# Altium schematic symbol library BEE-DAL_EXP_sche.SCHLIB: 87 symbols
Pins are listed as number, name and electrical type; pins without a type are passive.

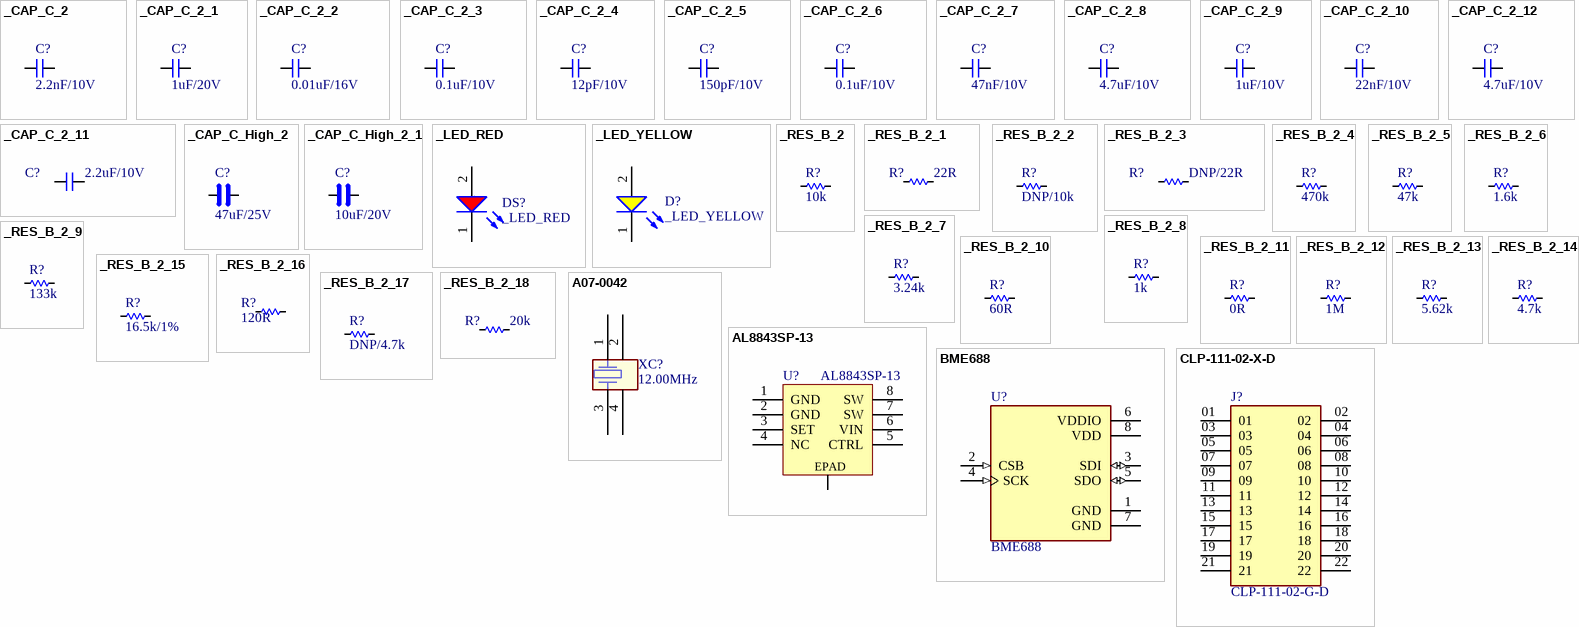
[diagram p0: symbols _CAP_C_2 to CLP-111-02-X-D]

## _CAP_C_2
designator C?, comment 2.2nF/10V
CAP
footprint CAP_C_1005X60
footprint CAP_C_1608X80 (Chip Capacitor, 2-Leads, Body 1.60x0.80mm, IPC Medium Density)
footprint CAP_C_2012X110 (Chip Capacitor, 2-Leads, Body 2.00x1.25mm, IPC High Density)
footprint CAP_C_3216X140 (Chip Capacitor, 2-Leads, Body 3.20x1.60mm, IPC High Density)
footprint CAP_C_3225X80 (Chip Capacitor, 2-Leads, Body 3.20x2.50mm, IPC Medium Density)
footprint CAP_C_1005X50_L (Chip Capacitor, 2-Leads, Body 1.0x0.5mm, IPC High Density)
pins: 1, 2

## _CAP_C_2_1
designator C?, comment 1uF/20V
CAP
footprint CAP_C_1005X60
footprint CAP_C_1608X80 (Chip Capacitor, 2-Leads, Body 1.60x0.80mm, IPC Medium Density)
footprint CAP_C_2012X110 (Chip Capacitor, 2-Leads, Body 2.00x1.25mm, IPC High Density)
footprint CAP_C_3216X140 (Chip Capacitor, 2-Leads, Body 3.20x1.60mm, IPC High Density)
footprint CAP_C_3225X80 (Chip Capacitor, 2-Leads, Body 3.20x2.50mm, IPC Medium Density)
footprint CAP_C_1005X50_L (Chip Capacitor, 2-Leads, Body 1.0x0.5mm, IPC High Density)
pins: 1, 2

## _CAP_C_2_2
designator C?, comment 0.01uF/16V
CAP
footprint CAP_C_1005X60
footprint CAP_C_1608X80 (Chip Capacitor, 2-Leads, Body 1.60x0.80mm, IPC Medium Density)
footprint CAP_C_2012X110 (Chip Capacitor, 2-Leads, Body 2.00x1.25mm, IPC High Density)
footprint CAP_C_3216X140 (Chip Capacitor, 2-Leads, Body 3.20x1.60mm, IPC High Density)
footprint CAP_C_3225X80 (Chip Capacitor, 2-Leads, Body 3.20x2.50mm, IPC Medium Density)
footprint CAP_C_1005X50_L (Chip Capacitor, 2-Leads, Body 1.0x0.5mm, IPC High Density)
pins: 1, 2

## _CAP_C_2_3
designator C?, comment 0.1uF/10V
CAP
footprint CAP_C_1005X60
footprint CAP_C_1608X80 (Chip Capacitor, 2-Leads, Body 1.60x0.80mm, IPC Medium Density)
footprint CAP_C_2012X110 (Chip Capacitor, 2-Leads, Body 2.00x1.25mm, IPC High Density)
footprint CAP_C_3216X140 (Chip Capacitor, 2-Leads, Body 3.20x1.60mm, IPC High Density)
footprint CAP_C_3225X80 (Chip Capacitor, 2-Leads, Body 3.20x2.50mm, IPC Medium Density)
footprint CAP_C_1005X50_L (Chip Capacitor, 2-Leads, Body 1.0x0.5mm, IPC High Density)
pins: 1, 2

## _CAP_C_2_4
designator C?, comment 12pF/10V
CAP
footprint CAP_C_1005X60
footprint CAP_C_1608X80 (Chip Capacitor, 2-Leads, Body 1.60x0.80mm, IPC Medium Density)
footprint CAP_C_2012X110 (Chip Capacitor, 2-Leads, Body 2.00x1.25mm, IPC High Density)
footprint CAP_C_3216X140 (Chip Capacitor, 2-Leads, Body 3.20x1.60mm, IPC High Density)
footprint CAP_C_3225X80 (Chip Capacitor, 2-Leads, Body 3.20x2.50mm, IPC Medium Density)
footprint CAP_C_1005X50_L (Chip Capacitor, 2-Leads, Body 1.0x0.5mm, IPC High Density)
pins: 1, 2

## _CAP_C_2_5
designator C?, comment 150pF/10V
CAP
footprint CAP_C_1005X60
footprint CAP_C_1608X80 (Chip Capacitor, 2-Leads, Body 1.60x0.80mm, IPC Medium Density)
footprint CAP_C_2012X110 (Chip Capacitor, 2-Leads, Body 2.00x1.25mm, IPC High Density)
footprint CAP_C_3216X140 (Chip Capacitor, 2-Leads, Body 3.20x1.60mm, IPC High Density)
footprint CAP_C_3225X80 (Chip Capacitor, 2-Leads, Body 3.20x2.50mm, IPC Medium Density)
footprint CAP_C_1005X50_L (Chip Capacitor, 2-Leads, Body 1.0x0.5mm, IPC High Density)
footprint CAP_C_0603x30 (Chip Capacitor, 2-Leads, Body 0.6x0.3mm, IPC Medium Density)
pins: 1, 2

## _CAP_C_2_6
designator C?, comment 0.1uF/10V
CAP CHIP
footprint CAP_C_1005X60
footprint CAP_C_1608X80 (Chip Capacitor, 2-Leads, Body 1.60x0.80mm, IPC Medium Density)
footprint CAP_C_2012X110 (Chip Capacitor, 2-Leads, Body 2.00x1.25mm, IPC High Density)
footprint CAP_C_3216X140 (Chip Capacitor, 2-Leads, Body 3.20x1.60mm, IPC High Density)
footprint CAP_C_3225X80 (Chip Capacitor, 2-Leads, Body 3.20x2.50mm, IPC Medium Density)
footprint CAP_C_1005X50_L (Chip Capacitor, 2-Leads, Body 1.0x0.5mm, IPC High Density)
pins: 1, 2

## _CAP_C_2_7
designator C?, comment 47nF/10V
CAP
footprint CAP_C_1005X60
footprint CAP_C_1608X80 (Chip Capacitor, 2-Leads, Body 1.60x0.80mm, IPC Medium Density)
footprint CAP_C_2012X110 (Chip Capacitor, 2-Leads, Body 2.00x1.25mm, IPC High Density)
footprint CAP_C_3216X140 (Chip Capacitor, 2-Leads, Body 3.20x1.60mm, IPC High Density)
footprint CAP_C_3225X80 (Chip Capacitor, 2-Leads, Body 3.20x2.50mm, IPC Medium Density)
footprint CAP_C_1005X50_L (Chip Capacitor, 2-Leads, Body 1.0x0.5mm, IPC High Density)
pins: 1, 2

## _CAP_C_2_8
designator C?, comment 4.7uF/10V
CAP
footprint CAP_C_1005X60
footprint CAP_C_1608X80 (Chip Capacitor, 2-Leads, Body 1.60x0.80mm, IPC Medium Density)
footprint CAP_C_2012X110 (Chip Capacitor, 2-Leads, Body 2.00x1.25mm, IPC High Density)
footprint CAP_C_3216X140 (Chip Capacitor, 2-Leads, Body 3.20x1.60mm, IPC High Density)
footprint CAP_C_3225X80 (Chip Capacitor, 2-Leads, Body 3.20x2.50mm, IPC Medium Density)
footprint CAP_C_1005X50_L (Chip Capacitor, 2-Leads, Body 1.0x0.5mm, IPC High Density)
pins: 1, 2

## _CAP_C_2_9
designator C?, comment 1uF/10V
CAP CHIP
footprint CAP_C_1005X60
footprint CAP_C_1608X80 (Chip Capacitor, 2-Leads, Body 1.60x0.80mm, IPC Medium Density)
footprint CAP_C_2012X110 (Chip Capacitor, 2-Leads, Body 2.00x1.25mm, IPC High Density)
footprint CAP_C_3216X140 (Chip Capacitor, 2-Leads, Body 3.20x1.60mm, IPC High Density)
footprint CAP_C_3225X80 (Chip Capacitor, 2-Leads, Body 3.20x2.50mm, IPC Medium Density)
footprint CAP_C_1005X50_L (Chip Capacitor, 2-Leads, Body 1.0x0.5mm, IPC High Density)
pins: 1, 2

## _CAP_C_2_10
designator C?, comment 22nF/10V
CAP CHIP
footprint CAP_C_1005X60
footprint CAP_C_1608X80 (Chip Capacitor, 2-Leads, Body 1.60x0.80mm, IPC Medium Density)
footprint CAP_C_2012X110 (Chip Capacitor, 2-Leads, Body 2.00x1.25mm, IPC High Density)
footprint CAP_C_3216X140 (Chip Capacitor, 2-Leads, Body 3.20x1.60mm, IPC High Density)
footprint CAP_C_3225X80 (Chip Capacitor, 2-Leads, Body 3.20x2.50mm, IPC Medium Density)
footprint CAP_C_1005X50_L (Chip Capacitor, 2-Leads, Body 1.0x0.5mm, IPC High Density)
pins: 1, 2

## _CAP_C_2_11
designator C?, comment 2.2uF/10V
CAP CHIP
footprint CAP_C_1005X60
footprint CAP_C_1608X80 (Chip Capacitor, 2-Leads, Body 1.60x0.80mm, IPC Medium Density)
footprint CAP_C_2012X110 (Chip Capacitor, 2-Leads, Body 2.00x1.25mm, IPC High Density)
footprint CAP_C_3216X140 (Chip Capacitor, 2-Leads, Body 3.20x1.60mm, IPC High Density)
footprint CAP_C_3225X80 (Chip Capacitor, 2-Leads, Body 3.20x2.50mm, IPC Medium Density)
footprint CAP_C_1005X50_L (Chip Capacitor, 2-Leads, Body 1.0x0.5mm, IPC High Density)
pins: 1, 2

## _CAP_C_2_12
designator C?, comment 4.7uF/10V
CAP CHIP
footprint CAP_C_1005X60
footprint CAP_C_1608X80 (Chip Capacitor, 2-Leads, Body 1.60x0.80mm, IPC Medium Density)
footprint CAP_C_2012X110 (Chip Capacitor, 2-Leads, Body 2.00x1.25mm, IPC High Density)
footprint CAP_C_3216X140 (Chip Capacitor, 2-Leads, Body 3.20x1.60mm, IPC High Density)
footprint CAP_C_3225X80 (Chip Capacitor, 2-Leads, Body 3.20x2.50mm, IPC Medium Density)
footprint CAP_C_1005X50_L (Chip Capacitor, 2-Leads, Body 1.0x0.5mm, IPC High Density)
pins: 1, 2

## _CAP_C_High_2
designator C?, comment 47uF/25V
CAP High Value
footprint CAP_C_1005X60
footprint CAP_C_1608X80 (Chip Capacitor, 2-Leads, Body 1.60x0.80mm, IPC Medium Density)
footprint CAP_C_2012X110 (Chip Capacitor, 2-Leads, Body 2.00x1.25mm, IPC High Density)
footprint CAP_C_3216X140 (Chip Capacitor, 2-Leads, Body 3.20x1.60mm, IPC High Density)
footprint CAP_C_3225X80 (Chip Capacitor, 2-Leads, Body 3.20x2.50mm, IPC Medium Density)
pins: 1, 2

## _CAP_C_High_2_1
designator C?, comment 10uF/20V
CAP High Value
footprint CAP_C_1005X60
footprint CAP_C_1608X80 (Chip Capacitor, 2-Leads, Body 1.60x0.80mm, IPC Medium Density)
footprint CAP_C_2012X110 (Chip Capacitor, 2-Leads, Body 2.00x1.25mm, IPC High Density)
footprint CAP_C_3216X140 (Chip Capacitor, 2-Leads, Body 3.20x1.60mm, IPC High Density)
footprint CAP_C_3225X80 (Chip Capacitor, 2-Leads, Body 3.20x2.50mm, IPC Medium Density)
pins: 1, 2

## _LED_RED
designator DS?
footprint LED_0603
footprint led_0402
footprint LED_0402
pins: 1 K, 2 A

## _LED_YELLOW
designator D?
footprint LED_0603
footprint LED_0402
pins: 1 K, 2 A

## _RES_B_2
designator R?, comment 10k
RES
footprint RES_C_1005X40
footprint RES_C_1608X60 (Chip Resistor, 2-Leads, Body 1.63x0.83mm, IPC High Density)
footprint RES_C_2012X65 (Chip Resistor, 2-Leads, Body 2.00x1.25mm, IPC High Density)
footprint RES_C_3216X70 (Chip Resistor, 2-Leads, Body 3.20x1.60mm, IPC Medium Density)
footprint RES_C_1005x30_L (Chip Resistor, 2-Leads, Body 1.0x0.5mm, IPC Medium Density)
pins: 1, 2

## _RES_B_2_1
designator R?, comment 22R
RES
footprint RES_C_1005X40
footprint RES_C_1608X60 (Chip Resistor, 2-Leads, Body 1.63x0.83mm, IPC High Density)
footprint RES_C_2012X65 (Chip Resistor, 2-Leads, Body 2.00x1.25mm, IPC High Density)
footprint RES_C_3216X70 (Chip Resistor, 2-Leads, Body 3.20x1.60mm, IPC Medium Density)
footprint RES_C_1005x30_L (Chip Resistor, 2-Leads, Body 1.0x0.5mm, IPC Medium Density)
pins: 1, 2

## _RES_B_2_2
designator R?, comment DNP/10k
RES
footprint RES_C_1005X40
footprint RES_C_1608X60 (Chip Resistor, 2-Leads, Body 1.63x0.83mm, IPC High Density)
footprint RES_C_2012X65 (Chip Resistor, 2-Leads, Body 2.00x1.25mm, IPC High Density)
footprint RES_C_3216X70 (Chip Resistor, 2-Leads, Body 3.20x1.60mm, IPC Medium Density)
footprint RES_C_1005x30_L (Chip Resistor, 2-Leads, Body 1.0x0.5mm, IPC Medium Density)
pins: 1, 2

## _RES_B_2_3
designator R?, comment DNP/22R
RES
footprint RES_C_1005X40
footprint RES_C_1608X60 (Chip Resistor, 2-Leads, Body 1.63x0.83mm, IPC High Density)
footprint RES_C_2012X65 (Chip Resistor, 2-Leads, Body 2.00x1.25mm, IPC High Density)
footprint RES_C_3216X70 (Chip Resistor, 2-Leads, Body 3.20x1.60mm, IPC Medium Density)
footprint RES_C_1005x30_L (Chip Resistor, 2-Leads, Body 1.0x0.5mm, IPC Medium Density)
pins: 1, 2

## _RES_B_2_4
designator R?, comment 470k
RES
footprint RES_C_1005X40
footprint RES_C_1608X60 (Chip Resistor, 2-Leads, Body 1.63x0.83mm, IPC High Density)
footprint RES_C_2012X65 (Chip Resistor, 2-Leads, Body 2.00x1.25mm, IPC High Density)
footprint RES_C_3216X70 (Chip Resistor, 2-Leads, Body 3.20x1.60mm, IPC Medium Density)
footprint RES_C_1005x30_L (Chip Resistor, 2-Leads, Body 1.0x0.5mm, IPC Medium Density)
pins: 1, 2

## _RES_B_2_5
designator R?, comment 47k
RES
footprint RES_C_1005X40
footprint RES_C_1608X60 (Chip Resistor, 2-Leads, Body 1.63x0.83mm, IPC High Density)
footprint RES_C_2012X65 (Chip Resistor, 2-Leads, Body 2.00x1.25mm, IPC High Density)
footprint RES_C_3216X70 (Chip Resistor, 2-Leads, Body 3.20x1.60mm, IPC Medium Density)
footprint RES_C_1005x30_L (Chip Resistor, 2-Leads, Body 1.0x0.5mm, IPC Medium Density)
pins: 1, 2

## _RES_B_2_6
designator R?, comment 1.6k
RES
footprint RES_C_1005X40
footprint RES_C_1608X60 (Chip Resistor, 2-Leads, Body 1.63x0.83mm, IPC High Density)
footprint RES_C_2012X65 (Chip Resistor, 2-Leads, Body 2.00x1.25mm, IPC High Density)
footprint RES_C_3216X70 (Chip Resistor, 2-Leads, Body 3.20x1.60mm, IPC Medium Density)
footprint RES_C_1005x30_L (Chip Resistor, 2-Leads, Body 1.0x0.5mm, IPC Medium Density)
pins: 1, 2

## _RES_B_2_7
designator R?, comment 3.24k
RES
footprint RES_C_1005X40
footprint RES_C_1608X60 (Chip Resistor, 2-Leads, Body 1.63x0.83mm, IPC High Density)
footprint RES_C_2012X65 (Chip Resistor, 2-Leads, Body 2.00x1.25mm, IPC High Density)
footprint RES_C_3216X70 (Chip Resistor, 2-Leads, Body 3.20x1.60mm, IPC Medium Density)
footprint RES_C_1005x30_L (Chip Resistor, 2-Leads, Body 1.0x0.5mm, IPC Medium Density)
pins: 1, 2

## _RES_B_2_8
designator R?, comment 1k
RES
footprint RES_C_1005X40
footprint RES_C_1608X60 (Chip Resistor, 2-Leads, Body 1.63x0.83mm, IPC High Density)
footprint RES_C_2012X65 (Chip Resistor, 2-Leads, Body 2.00x1.25mm, IPC High Density)
footprint RES_C_3216X70 (Chip Resistor, 2-Leads, Body 3.20x1.60mm, IPC Medium Density)
footprint RES_C_1005x30_L (Chip Resistor, 2-Leads, Body 1.0x0.5mm, IPC Medium Density)
pins: 1, 2

## _RES_B_2_9
designator R?, comment 133k
RES
footprint RES_C_1005X40
footprint RES_C_1608X60 (Chip Resistor, 2-Leads, Body 1.63x0.83mm, IPC High Density)
footprint RES_C_2012X65 (Chip Resistor, 2-Leads, Body 2.00x1.25mm, IPC High Density)
footprint RES_C_3216X70 (Chip Resistor, 2-Leads, Body 3.20x1.60mm, IPC Medium Density)
footprint RES_C_1005x30_L (Chip Resistor, 2-Leads, Body 1.0x0.5mm, IPC Medium Density)
pins: 1, 2

## _RES_B_2_10
designator R?, comment 60R
RES
footprint RES_C_1005X40
footprint RES_C_1608X60 (Chip Resistor, 2-Leads, Body 1.63x0.83mm, IPC High Density)
footprint RES_C_2012X65 (Chip Resistor, 2-Leads, Body 2.00x1.25mm, IPC High Density)
footprint RES_C_3216X70 (Chip Resistor, 2-Leads, Body 3.20x1.60mm, IPC Medium Density)
footprint RES_C_1005x30_L (Chip Resistor, 2-Leads, Body 1.0x0.5mm, IPC Medium Density)
pins: 1, 2

## _RES_B_2_11
designator R?, comment 0R
RES
footprint RES_C_1005X40
footprint RES_C_1608X60 (Chip Resistor, 2-Leads, Body 1.63x0.83mm, IPC High Density)
footprint RES_C_2012X65 (Chip Resistor, 2-Leads, Body 2.00x1.25mm, IPC High Density)
footprint RES_C_3216X70 (Chip Resistor, 2-Leads, Body 3.20x1.60mm, IPC Medium Density)
footprint RES_C_1005x30_L (Chip Resistor, 2-Leads, Body 1.0x0.5mm, IPC Medium Density)
footprint RES_C_0603X30 (Chip Resistor, 2-Leads, Body 0.6x0.3mm, IPC Medium Density)
pins: 1, 2

## _RES_B_2_12
designator R?, comment 1M
RES
footprint RES_C_1005X40
footprint RES_C_1608X60 (Chip Resistor, 2-Leads, Body 1.63x0.83mm, IPC High Density)
footprint RES_C_2012X65 (Chip Resistor, 2-Leads, Body 2.00x1.25mm, IPC High Density)
footprint RES_C_3216X70 (Chip Resistor, 2-Leads, Body 3.20x1.60mm, IPC Medium Density)
footprint RES_C_1005x30_L (Chip Resistor, 2-Leads, Body 1.0x0.5mm, IPC Medium Density)
pins: 1, 2

## _RES_B_2_13
designator R?, comment 5.62k
RES
footprint RES_C_1005X40
footprint RES_C_1608X60 (Chip Resistor, 2-Leads, Body 1.63x0.83mm, IPC High Density)
footprint RES_C_2012X65 (Chip Resistor, 2-Leads, Body 2.00x1.25mm, IPC High Density)
footprint RES_C_3216X70 (Chip Resistor, 2-Leads, Body 3.20x1.60mm, IPC Medium Density)
footprint RES_C_1005x30_L (Chip Resistor, 2-Leads, Body 1.0x0.5mm, IPC Medium Density)
pins: 1, 2

## _RES_B_2_14
designator R?, comment 4.7k
RES
footprint RES_C_1005X40
footprint RES_C_1608X60 (Chip Resistor, 2-Leads, Body 1.63x0.83mm, IPC High Density)
footprint RES_C_2012X65 (Chip Resistor, 2-Leads, Body 2.00x1.25mm, IPC High Density)
footprint RES_C_3216X70 (Chip Resistor, 2-Leads, Body 3.20x1.60mm, IPC Medium Density)
footprint RES_C_1005x30_L (Chip Resistor, 2-Leads, Body 1.0x0.5mm, IPC Medium Density)
footprint RES_C_0603X30 (Chip Resistor, 2-Leads, Body 0.6x0.3mm, IPC Medium Density)
pins: 1, 2

## _RES_B_2_15
designator R?, comment 16.5k/1%
RES
footprint RES_C_1005X40
footprint RES_C_1608X60 (Chip Resistor, 2-Leads, Body 1.63x0.83mm, IPC High Density)
footprint RES_C_2012X65 (Chip Resistor, 2-Leads, Body 2.00x1.25mm, IPC High Density)
footprint RES_C_3216X70 (Chip Resistor, 2-Leads, Body 3.20x1.60mm, IPC Medium Density)
footprint RES_C_1005x30_L (Chip Resistor, 2-Leads, Body 1.0x0.5mm, IPC Medium Density)
pins: 1, 2

## _RES_B_2_16
designator R?, comment 120R
RES
footprint RES_C_1005X40
footprint RES_C_1608X60 (Chip Resistor, 2-Leads, Body 1.63x0.83mm, IPC High Density)
footprint RES_C_2012X65 (Chip Resistor, 2-Leads, Body 2.00x1.25mm, IPC High Density)
footprint RES_C_3216X70 (Chip Resistor, 2-Leads, Body 3.20x1.60mm, IPC Medium Density)
footprint RES_C_1005x30_L (Chip Resistor, 2-Leads, Body 1.0x0.5mm, IPC Medium Density)
pins: 1, 2

## _RES_B_2_17
designator R?, comment DNP/4.7k
RES
footprint RES_C_1005X40
footprint RES_C_1608X60 (Chip Resistor, 2-Leads, Body 1.63x0.83mm, IPC High Density)
footprint RES_C_2012X65 (Chip Resistor, 2-Leads, Body 2.00x1.25mm, IPC High Density)
footprint RES_C_3216X70 (Chip Resistor, 2-Leads, Body 3.20x1.60mm, IPC Medium Density)
footprint RES_C_1005x30_L (Chip Resistor, 2-Leads, Body 1.0x0.5mm, IPC Medium Density)
pins: 1, 2

## _RES_B_2_18
designator R?, comment 20k
RES
footprint RES_C_1005X40
footprint RES_C_1608X60 (Chip Resistor, 2-Leads, Body 1.63x0.83mm, IPC High Density)
footprint RES_C_2012X65 (Chip Resistor, 2-Leads, Body 2.00x1.25mm, IPC High Density)
footprint RES_C_3216X70 (Chip Resistor, 2-Leads, Body 3.20x1.60mm, IPC Medium Density)
footprint RES_C_1005x30_L (Chip Resistor, 2-Leads, Body 1.0x0.5mm, IPC Medium Density)
pins: 1, 2

## A07-0042
designator XC?, comment value 12.00MHz  (hidden comment: FC5BQCCMC12.0-T1)
Fox FQ5032B 12.0MHz SMD crystal 738B-12; PartGroup: Frequency devices,Crystals,SMD; Manufacturer: Fox  Electronics; MPN: FQ5032B-12.000; AN: A07-0042; Tolerance: Â±30ppm; TemperatureRange: 0Â°C ~ 70Â°C; Height: 1,20000004768372
footprint AP7-00039 (FOX FQ5032B)
pins: 1, 2, 3, 4

## AL8843SP-13
designator U?
IC LED DRIVER RGLTR PWM 3A 8SO
footprint SOIC127P602X173-8N_EPAD
pins: 1 GND, 2 GND, 3 SET, 4 NC, 5 CTRL, 6 VIN, 7 SW, 8 SW, 9 EPAD

## BME688
designator U?
Gas sensor measuring relative humidity, barometric pressure, ambient temperature and gas (VOC); Package: None; MP: BME688; Price: None; Availability: Unavailable; Value: *
footprint IC_BME688
pins: 1 GND (power), 2 CSB (in), 3 SDI (io), 4 SCK (in), 5 SDO (io), 6 VDDIO (power), 7 GND (power), 8 VDD (power)

## CLP-111-02-X-D
designator J?, comment CLP-111-02-G-D
CLP - Samtec 1.27mm Tiger Claw Rugged Reliable Dual Wipe Socket Strip; MP: CLP-111-02-L-D; SnapEDA_Link: https://www.snapeda.com/parts/CLP-111-02-L-D/Samtec/view-part/?ref=snap; Package: None; Value: *; MF: Samtec; Check_prices: https://www.snapeda.com/parts/CLP-111-02-L-D/Samtec/view-part/?ref=eda
footprint SAMTEC_CLP-111-02-X-D
pins: 01, 02, 03, 04, 05, 06, 07, 08, 09, 10, 11, 12, 13, 14, 15, 16, 17, 18, 19, 20, 21, 22

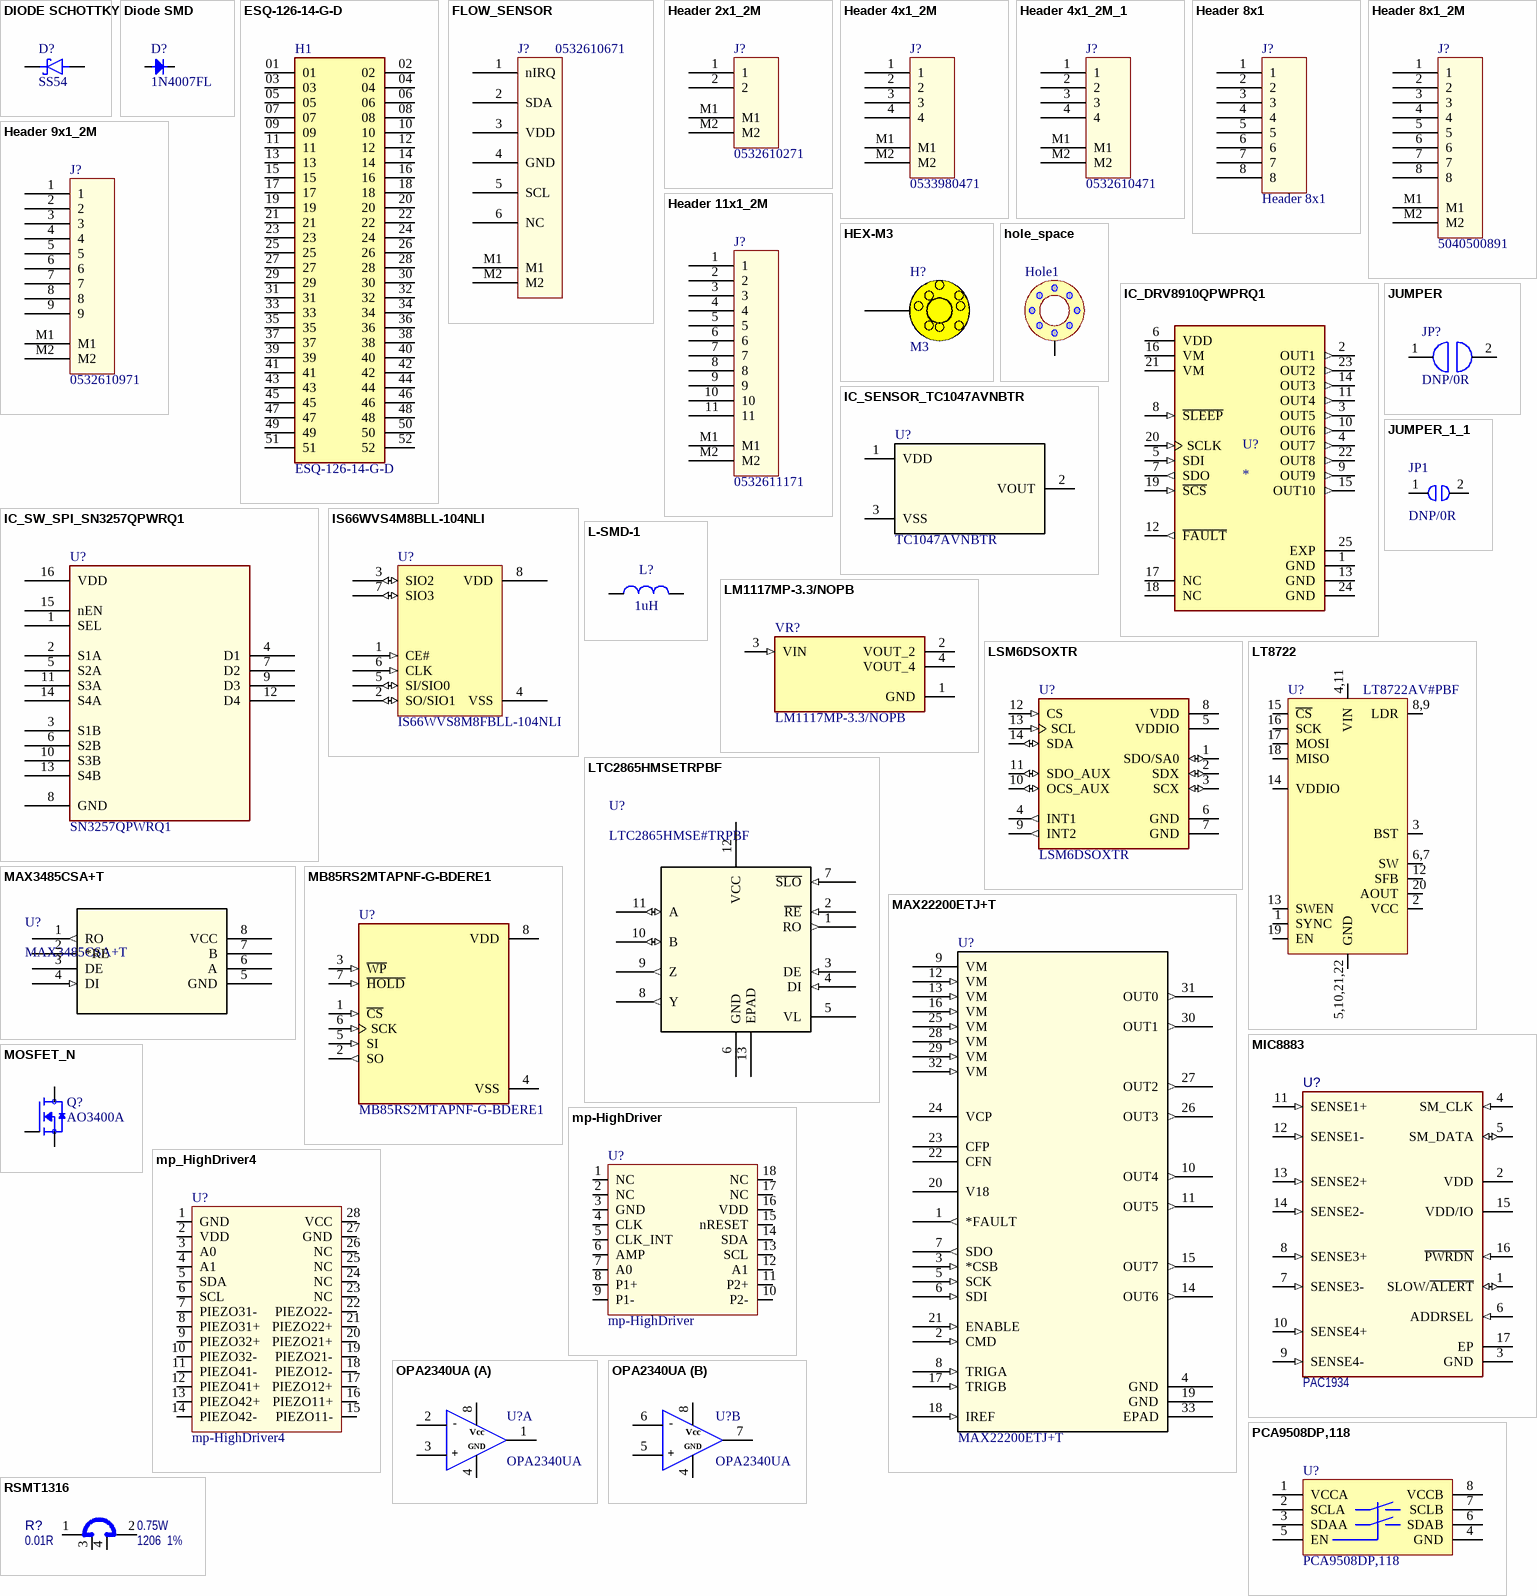
[diagram p1: symbols DIODE SCHOTTKY to RSMT1316]

## DIODE SCHOTTKY
designator D?, comment SS54
DIODE SCHOTTKY
footprint DO-214AC_SMA (Molded Diode, 2-Leads, Body 5.20x2.61mm, IPC Medium Density)
pins: 1 K, 2 A

## Diode SMD
designator D?, comment 1N4007FL
Default Diode; Code - JEDEC: DO-214-AB; Value: 1N5007; Published: 8-Jun-2000; Revision: July-2002: Re-released for DXP Platform.; Publisher: Altium Limited
footprint SOD3717X145N
footprint DIO-SMD-123
footprint DIO-SMD-A
footprint DIO-SMD-B (Magnetic-Core Inductor with Winding Polarity Marking; 2 Leads)
footprint DIO-SMD-216AA (DO216AA ST-MITE)
footprint DIO-SMD-222AA (DO216AA ST-MITE)
footprint DIO-SMD-C
footprint DIO-SMD-323
pins: 1 K, 2 A

## ESQ-126-14-G-D
designator H1
CONN SOCKET 52POS 0.1 GOLD PCB; MF: Samtec; MP: ESQ-126-14-G-D; Price: None; Package: None; Value: *; Availability: Unavailable
footprint SAMTEC_ESQ-126-14-G-D
pins: 01, 02, 03, 04, 05, 06, 07, 08, 09, 10, 11, 12, 13, 14, 15, 16, 17, 18, 19, 20, 21, 22, 23, 24, 25, 26, 27, 28, 29, 30, 31, 32, 33, 34, 35, 36, 37, 38, 39, 40, 41, 42, 43, 44, 45, 46, 47, 48, 49, 50, 51, 52

## FLOW_SENSOR
designator J?, comment 0532610671
footprint MOLEX_0533980671
footprint MOLEX_0532610671
pins: 1 nIRQ, 2 SDA, 3 VDD, 4 GND, 5 SCL, 6 NC, M1, M2

## Header 2x1_2M
designator J?, comment 0532610271
footprint MOLEX_0533980271
footprint JP2-D1T
footprint molex_0532610271
pins: 1, 2, M1, M2

## Header 4x1_2M
designator J?, comment 0533980471
footprint MOLEX_0533980471
footprint MOLEX_0532610471
footprint MOLEX_0532610471
pins: 1, 2, 3, 4, M1, M2

## Header 4x1_2M_1
designator J?, comment 0532610471
footprint MOLEX_0532610471
pins: 1, 2, 3, 4, M1, M2

## Header 8x1
designator J?
footprint Header_254P_8x1
footprint SAMTEC_TSM-108-01-L-SV-P-TR
pins: 1, 2, 3, 4, 5, 6, 7, 8

## Header 8x1_2M
designator J?, comment 5040500891
footprint MOLEX_5040500891
pins: 1, 2, 3, 4, 5, 6, 7, 8, M1, M2

## Header 9x1_2M
designator J?, comment 0532610971
footprint MOLEX_0533980971
footprint MOLEX_0532610971
pins: 1, 2, 3, 4, 5, 6, 7, 8, 9, M1, M2

## Header 11x1_2M
designator J?, comment 0532611171
footprint MOLEX_0533981171
footprint MOLEX_0532611171
pins: 1, 2, 3, 4, 5, 6, 7, 8, 9, 10, 11, M1, M2

## HEX-M3
designator H?, comment M3
footprint HEX-M3_NoVia_Smaller
pins: 1 (power)

## hole_space
designator Hole1  (value not drawn)
footprint HEX-M3_NoVia
pins: 1

## IC_DRV8910QPWPRQ1
designator U?
Automotive, 40-V, 6-A, 10-channel half-bridge motor driver with advanced diagnostics; MF: Texas Instruments; MP: DRV8910QPWPRQ1; Package: HTSSOP-24 Texas Instruments; Price: None; Check_prices: https://www.snapeda.com/parts/DRV8910QPWPRQ1/Texas+Instruments/view-part/?ref=eda; Value: *; SnapEDA_Link: https://www.snapeda.com/parts/DRV8910QPWPRQ1/Texas+Instruments/view-part/?ref=snap; Availability: In Stock; Purchase-URL: https://pricing.snapeda.com/search?q=DRV8910QPWPRQ1&ref=eda
footprint IC_DRV8910QPWPRQ1
pins: 1 GND (power), 2 OUT1 (out), 3 OUT5 (out), 4 OUT7 (out), 5 SDI (in), 6 VDD (power), 7 SDO (out), 8 ~{SLEEP} (in), 9 OUT9 (out), 10 OUT6 (out), 11 OUT4 (out), 12 ~{FAULT} (out), 13 GND (power), 14 OUT3 (out), 15 OUT10 (out), 16 VM (power), 17 NC, 18 NC, 19 ~{SCS} (in), 20 SCLK (in), 21 VM (power), 22 OUT8 (out), 23 OUT2 (out), 24 GND (power), 25 EXP

## IC_SENSOR_TC1047AVNBTR
designator U?, comment TC1047AVNBTR
Temperature Sensor Analog, Local -40°C ~ 125°C 10mV/°C SOT-23-3
footprint SOT95P240X120-3N
pins: 1 VDD, 2 VOUT, 3 VSS

## IC_SW_SPI_SN3257QPWRQ1
designator U?, comment SN3257QPWRQ1
Automotive 5-V, 2:1 (SPDT), 4-channel switch with 1.8-V logic and powered-off protection 16-TSSOP -40 to 125; Manufacturer_Name: Texas Instruments; Copyright: Copyright (C) 2025 Ultra Librarian. All rights reserved.; Manufacturer_Part_Number: SN3257QPWRQ1; Datasheet: https://www.ti.com/lit/gpn/sn3257-q1; RefDes: RefDes; Type: Type
footprint SOIC_PRQ1_TEX
pins: 1 SEL, 2 S1A, 3 S1B, 4 D1, 5 S2A, 6 S2B, 7 D2, 8 GND, 9 D3, 10 S3B, 11 S3A, 12 D4, 13 S4B, 14 S4A, 15 nEN, 16 VDD

## IS66WVS4M8BLL-104NLI
designator U?, comment IS66WVS8M8FBLL-104NLI
No Description Available; Manufacturer_Name: ISSI; Manufacturer_Part_Number: IS66WVS4M8BLL-104NLI; Type: Memory; Copyright: Copyright (C) 2025 Ultra Librarian. All rights reserved.; RefDes: RefDes
footprint SOIC8_150MIL_N_ISI
footprint SOIC8_150MIL_N_ISI
pins: 1 CE# (in), 2 SO/SIO1 (io), 3 SIO2 (io), 4 VSS (power), 5 SI/SIO0 (io), 6 CLK (in), 7 SIO3 (io), 8 VDD (power)

## JUMPER
designator JP?, comment DNP/0R
footprint JUMPER2
footprint JUMPER-EXP-V110
footprint JUMPER-EXP-V110
footprint JUMPER
footprint JUMPER
footprint RES_C_1608X60 (Chip Resistor, 2-Leads, Body 1.63x0.83mm, IPC High Density)
footprint JUMPER_1608
pins: 1, 2

## JUMPER_1_1
designator JP1, comment DNP/0R
footprint JUMPER2
footprint JUMPER-EXP-V110
footprint JUMPER-EXP-V110
footprint JUMPER
footprint JUMPER
footprint RES_C_1608X60 (Chip Resistor, 2-Leads, Body 1.63x0.83mm, IPC High Density)
pins: 1, 2

## L-SMD-1
designator L?, comment 1uH
partNo: 78477010; Manufacturer: Wurth Elektronik; Inductance: 1.0 μH; ComponentLink1Description: Manufacturer; ComponentLink1URL: http://www.we-online.de; Created by: Baojun Chen; Created Date: Nov.2015; ComponentLink2Description: Datasheet; ComponentLink2URL: http://katalog.we-online.de/pbs/datasheet/78477010.pdf
footprint PSM1040 (10x10x4mm)
footprint L-SMD-M-7.3x4.5 (WE-PDA SMD Shielded Power Inductor, 7345)
footprint L-SMD-M-6x6
footprint L-SMD-M-12x10 (WE-PDA SMD Shielded Power Inductor, 1210)
footprint L-SMD-M-12x8
footprint L-SMD-M-10x10
footprint L-SMD-0630 (6.6x6.6)
footprint L-SMD-M-3.5x3.5x2mm
footprint L-SMD-M-3.5x3.5x2mm-EXP-V101
footprint L-SMD-M-3.5x3.5x2mm-EXP-V110
footprint L-SMD-M-3.5x3.5x2mm
footprint L-SMD-M-3.5X3.5X2MM
pins: 1, 2

## LM1117MP-3.3/NOPB
designator VR?
800-mA 15-V linear voltage regulator; MF: Texas Instruments; SnapEDA_Link: https://www.snapeda.com/parts/LM1117MP-3.3/NOPB/Texas+Instruments/view-part/?ref=snap; Package: SOT-223-4 Texas Instruments; Value: *; MP: LM1117MP-3.3/NOPB; Check_prices: https://www.snapeda.com/parts/LM1117MP-3.3/NOPB/Texas+Instruments/view-part/?ref=eda
footprint VREG_LM1117MP-3.3/NOPB
pins: 1 GND (power), 2 VOUT_2 (power), 3 VIN (in), 4 VOUT_4 (power)

## LSM6DSOXTR
designator U?
Accelerometer, Gyroscope, 6 Axis Sensor I2C, SPI Output; MF: STMicroelectronics; SnapEDA_Link: https://www.snapeda.com/parts/LSM6DSOXTR/STMicroelectronics/view-part/?ref=snap; Package: VFLGA-14 STMicroelectronics; Value: *; MP: LSM6DSOXTR; Check_prices: https://www.snapeda.com/parts/LSM6DSOXTR/STMicroelectronics/view-part/?ref=eda
footprint PQFN50P250X300X86-14N
pins: 1 SDO/SA0 (io), 2 SDX (io), 3 SCX (io), 4 INT1 (out), 5 VDDIO (power), 6 GND (power), 7 GND (power), 8 VDD (power), 9 INT2 (out), 10 OCS_AUX (io), 11 SDO_AUX (io), 12 CS (in), 13 SCL (in), 14 SDA (io)

## LT8722
designator U?, comment LT8722AV#PBF
footprint QFN18
footprint QFN18_LT8722
footprint QFN18
footprint QFN18-EXP-V101
footprint QFN18-EXP-V110
footprint QFN18
footprint QFN18
pins: 1 SYNC, 2 VCC, 3 BST, 4,11 VIN, 5,10,21,22 GND, 6,7 SW, 8,9 LDR, 12 SFB, 13 SWEN, 14 VDDIO, 15 ~{CS}, 16 SCK, 17 MOSI, 18 MISO, 19 EN, 20 AOUT

## LTC2865HMSETRPBF
designator U?, comment LTC2865HMSE#TRPBF
Â±60V Fault Protected 3V to 5.5V RS485/RS422 Transceivers; Manufacturer_Name: Analog Devices Inc; Copyright: Copyright (C) 2025 Ultra Librarian. All rights reserved.; Manufacturer_Part_Number: LTC2865HMSE#TRPBF; RefDes: RefDes; Type: Type
footprint MSOP-12_MSE_LIT
pins: 1 RO (out), 2 ~{RE} (in), 3 DE (in), 4 DI (in), 5 VL (power), 6 GND (power), 7 ~{SLO} (in), 8 Y (out), 9 Z (out), 10 B (io), 11 A (io), 12 VCC (power), 13 EPAD

## MAX3485CSA+T
designator U?
Low-Power, Slew-Rate-Limited RS-485/RS-422 Transceivers, IC TRANSCEIVER HALF 1/1 8SOIC; Manufacturer_Name: Analog Devices Inc; Manufacturer_Part_Number: MAX485CSA+T; Copyright: Copyright (C) 2025 Ultra Librarian. All rights reserved.; RefDes: RefDes; Type: Type
footprint 21-0041-3-M_90-0096-8L_MXM
pins: 1 RO (out), 2 *RE, 3 DE, 4 DI (in), 5 GND (power), 6 A, 7 B, 8 VCC (power)

## MAX22200ETJ+T
designator U?
36V, 1A Octal Integrated Serial-Controlled Solenoid and Motor Driver; Manufacturer_Name: Analog Devices Inc; Copyright: Copyright (C) 2026 Ultra Librarian. All rights reserved.; Manufacturer_Part_Number: MAX22200ETJ+T; RefDes: RefDes; Type: Type
footprint 21-0140AK_T3255_8C_MXM
pins: 1 *FAULT (out), 2 CMD (in), 3 *CSB (in), 4 GND (power), 5 SCK (in), 6 SDI (in), 7 SDO (out), 8 TRIGA (in), 9 VM (power), 10 OUT4 (out), 11 OUT5 (out), 12 VM (in), 13 VM (in), 14 OUT6 (out), 15 OUT7 (out), 16 VM (in), 17 TRIGB (in), 18 IREF (in), 19 GND (power), 20 V18 (power), 21 ENABLE (in), 22 CFN (power), 23 CFP (power), 24 VCP (power), 25 VM (in), 26 OUT3 (out), 27 OUT2 (out), 28 VM (in), 29 VM (in), 30 OUT1 (out), 31 OUT0 (out), 32 VM (in), 33 EPAD (power)

## MB85RS2MTAPNF-G-BDERE1
designator U?
FRAM _Ferroelectric RAM_ Memory IC 2Mb _256K x 8_ SPI 40MHz 8-SOP; MF: Fujitsu Electronics; Package: SO-8 Fujitsu; Value: *; Digi-Key_Purchase_URL: https://www.digikey.com/product-detail/en/fujitsu-electronics-america-inc/MB85RS2MTAPNF-G-BDERE1/865-1286-1-ND/7916252?utm_source=snapeda&utm_medium=aggregator&utm_campaign=symbol; Digi-Key_Part_Number: 865-1286-1-ND; SnapEDA_Link: https://www.snapeda.com/parts/MB85RS2MTAPNF-G-BDERE1/Fujitsu%20Electronics%20America%2C%20Inc./view-part/2344795/?ref=snap; MP: MB85RS2MTAPNF-G-BDERE1
footprint SOIC127P602X173-8N
pins: 1 ~{CS} (in), 2 SO (out), 3 ~{WP} (in), 4 VSS (power), 5 SI (in), 6 SCK (in), 7 ~{HOLD} (in), 8 VDD (power)

## MIC8883
designator U?, comment value PAC1934  (hidden comment: PAC1934 UQFN-16)
Manufacturer 1: Microchip Technology; Manufacturer Part Number 1: PAC1934T-I/JQ; MCHP-ID: MIC8883; Description_: MCHP ANALOG POWER CURRENT SENSE MONITOR PAC1934T-I/JQ UQFN-16; Dev Tools Status: Design; Owner: Ciprian Abramov; Populated: YES; Symbol: PAC1934 UQFN-16; Type: Power/Current Sensor; Status: MCL Design; Revision: 1; Category: MCHP-Analog; ComponentLink1Description: SVN Datasheet; ComponentLink2Description: Local Datasheet; ComponentLink3URL: C:\ALTIUM_WORK\00001_MCHP-CDB\Library\LibraryRefs\PAC1934 UQFN-16.SchLib; ComponentLink3Description: Open Symbol; ComponentLink4URL: C:\ALTIUM_WORK\00001_MCHP-CDB\Library\Footprints\UQFN-16_4X4_EP2.6X2.6.PcbLib; ComponentLink4Description: Open Footprint; ComponentLink5Description: Open Footprint 2; ComponentLink6Description: Open Footprint 3; ComponentLink7Description: Open Footprint 4; Supplier 1: Digi-Key; Supplier Part Number 1: PAC1934T-I/JQCT-ND; Quantity Override: 1
footprint UQFN-16_4X4_EP2.6X2.6
pins: 1 SLOW/~{ALERT} (io), 2 VDD (power), 3 GND (power), 4 SM_CLK (in), 5 SM_DATA (io), 6 ADDRSEL (in), 7 SENSE3- (in), 8 SENSE3+ (in), 9 SENSE4- (in), 10 SENSE4+ (in), 11 SENSE1+ (in), 12 SENSE1- (in), 13 SENSE2+ (in), 14 SENSE2- (in), 15 VDD/IO (power), 16 ~{PWRDN} (in), 17 EP
2 alternate drawings of the same symbol

## MOSFET_N
designator Q?, comment AO3400A
N-Channel 30 V 5.7A (Ta) 1.4W (Ta) Surface Mount SOT-23-3; MF: Alpha & Omega Semiconductor; SnapEDA_Link: https://www.snapeda.com/parts/AO3400A/Alpha/view-part/?ref=snap; Package: SOT-23 Alpha &amp; Omega Semiconductor Inc.; Value: *; MP: AO3400A; Check_prices: https://www.snapeda.com/parts/AO3400A/Alpha/view-part/?ref=eda
footprint SOT95P240X120-3N
pins: 1 G, 2 S, 3 D

## mp-HighDriver
designator U?
footprint MP_HIGHDRIVER
pins: 1 NC, 2 NC, 3 GND (power), 4 CLK, 5 CLK_INT, 6 AMP, 7 A0, 8 P1+, 9 P1-, 10 P2-, 11 P2+, 12 A1, 13 SCL, 14 SDA, 15 nRESET, 16 VDD (power), 17 NC, 18 NC

## mp_HighDriver4
designator U?, comment mp-HighDriver4
footprint mp_HighDriver4
pins: 1 GND (power), 2 VDD (power), 3 A0, 4 A1, 5 SDA, 6 SCL, 7 PIEZO31-, 8 PIEZO31+, 9 PIEZO32+, 10 PIEZO32-, 11 PIEZO41-, 12 PIEZO41+, 13 PIEZO42+, 14 PIEZO42-, 15 PIEZO11-, 16 PIEZO11+, 17 PIEZO12+, 18 PIEZO12-, 19 PIEZO21-, 20 PIEZO21+, 21 PIEZO22+, 22 PIEZO22-, 23 NC, 24 NC, 25 NC, 26 NC, 27 GND (power), 28 VCC (power)

## OPA2340UA
designator U?
footprint SOIC127P602X173-8N
part A pins: 1, 2, 3, 4, 8
part B pins: 4, 5, 6, 7, 8
part A text: -; Vcc; GND; +
part B text: -; Vcc; GND; +

## PCA9508DP,118
designator U?
footprint TSOP8 (TSOP, 8-Leads, Body 3x3mm, Pitch 0.65mm, IPC High Density)
footprint tssop8 (TSSOP, 8-Leads, Body 3.00x4.40mm, Pitch 0.65mm, IPC Medium Density)
pins: 1 VCCA, 2 SCLA, 3 SDAA, 4 GND, 5 EN, 6 SDAB, 7 SCLB, 8 VCCB

## RSMT1316
designator R?, comment value 0.01R  Package: 1206  Tolerance: 1%  Power: 0.75W  (hidden comment: KRL1632E-M-R010-F-T5)
Shunt; Manufacturer 1: SUSUMU; MCHP-ID: RSMT1316; Symbol: Shunt 4 Pin; Description_: RES SHUNT MF 0.01R 1% 0.75W SMD 1206; Dev Tools Status: Design; Temperature Coeffcient: 50ppm/C; Current: 8A; Owner: Ciprian Abramov; Populated: YES; Revision: 1; Status: MCL Design; ComponentLink1URL: https://chn-vm-apps.microchip.com/mchprepo/parts/Datasheets/n_catalog_partition09_en.pdf; ComponentLink1Description: SVN Datasheet; ComponentLink2URL: C:\ALTIUM_WORK\00001_MCHP-CDB\Datasheets\n_catalog_partition09_en.pdf; ComponentLink2Description: Local Datasheet; ComponentLink3URL: C:\ALTIUM_WORK\00001_MCHP-CDB\Library\LibraryRefs\Shunt 4 Pin.SchLib; ComponentLink3Description: Open Symbol; ComponentLink4URL: C:\ALTIUM_WORK\00001_MCHP-CDB\Library\Footprints\RES_C_1206_SHUNT.PcbLib; ComponentLink4Description: Open Footprint; ComponentLink5Description: Open Footprint 2; ComponentLink6Description: Open Footprint 3; ComponentLink7Description: Open Footprint 4; Operating Temperature: -55C to +155C; Category: Resistor; Type: RES SMD; Composition: MF; Manufacturer Part Number 1: KRL1632E-M-R010-F-T5; Supplier 1: Digi-Key; Supplier Part Number 1: 408-1570-1-ND; Quantity Override: 1
footprint RES_C_1206_SHUNT
pins: 1, 2, 3, 4

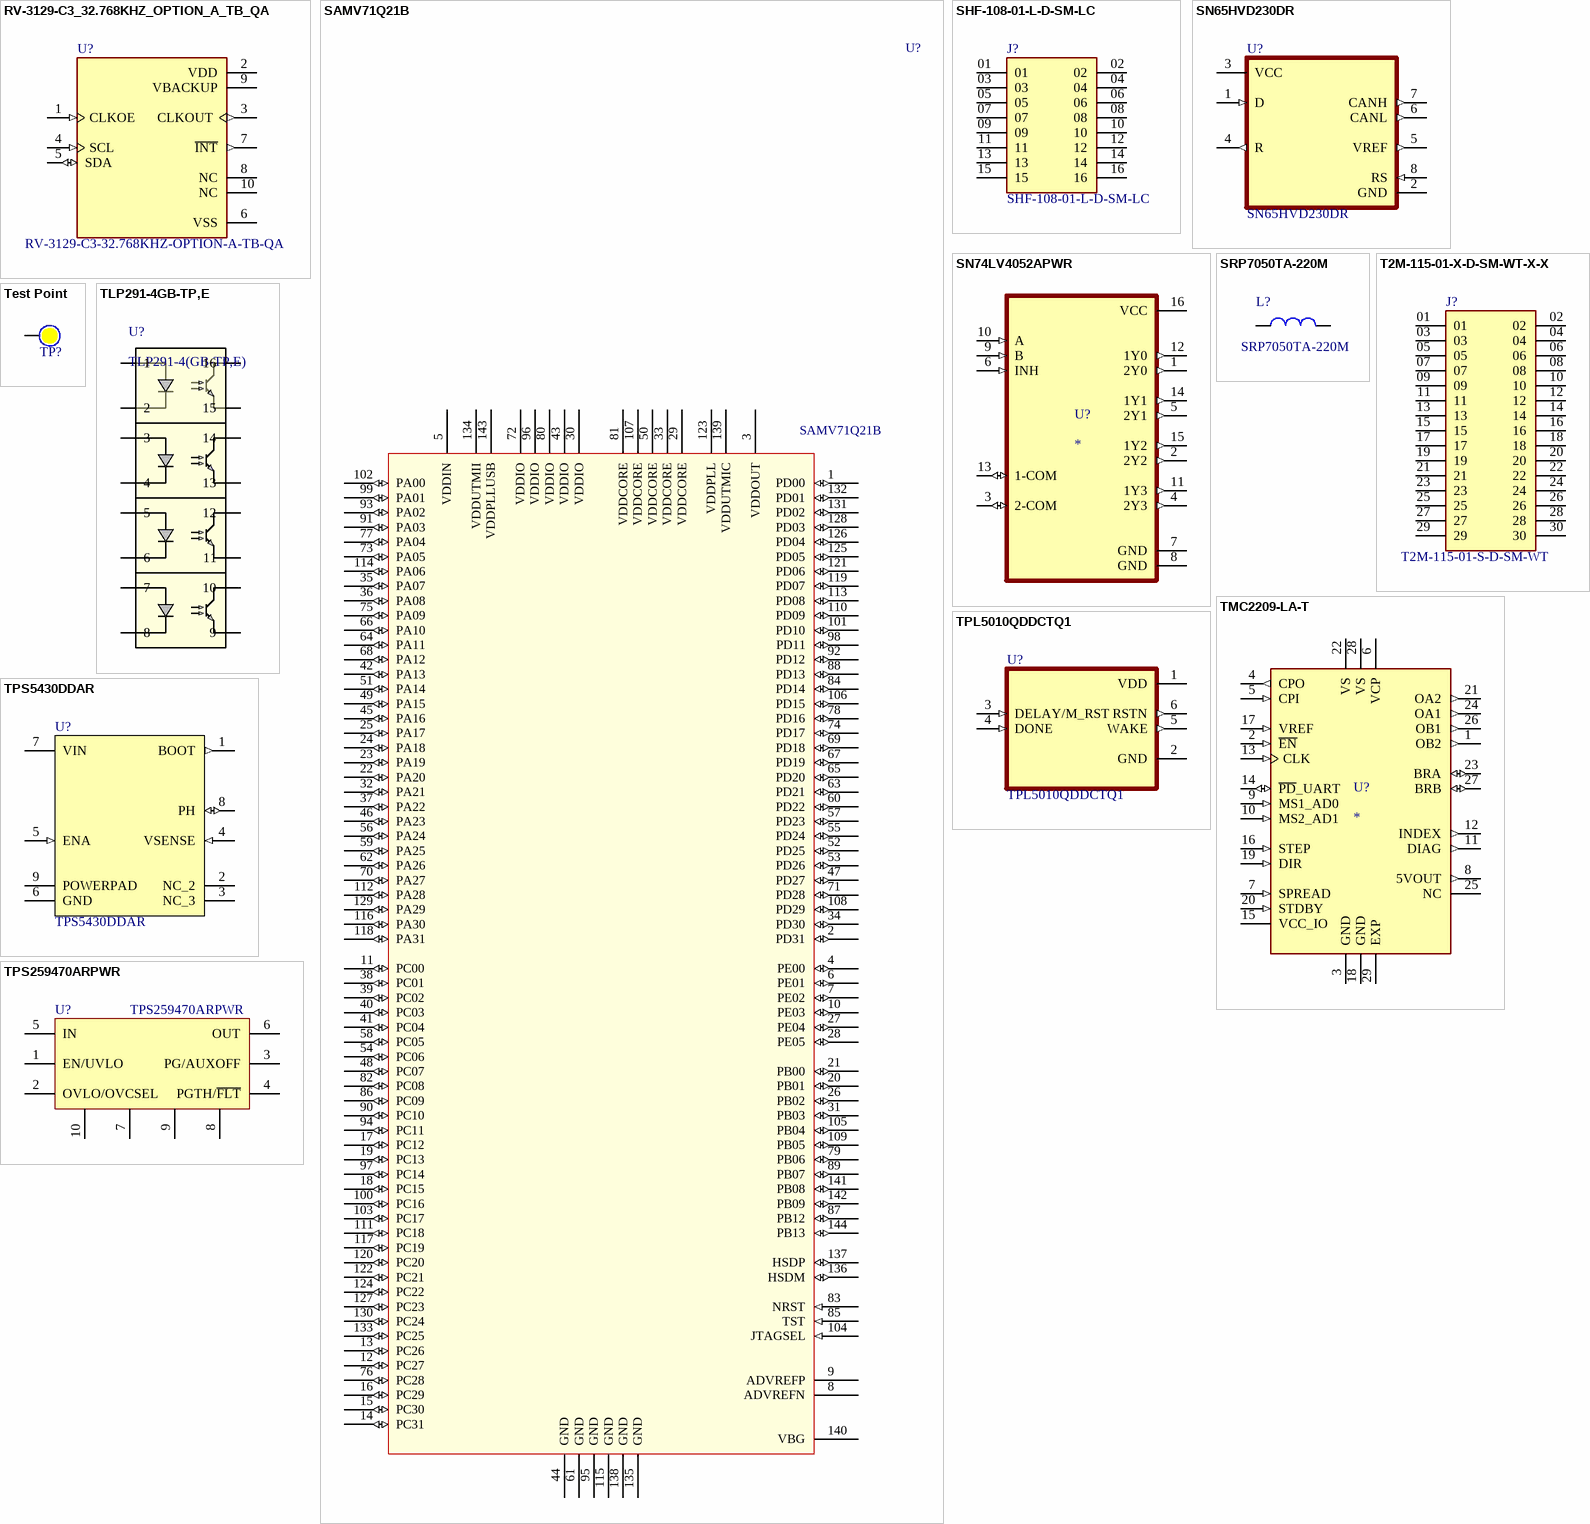
[diagram p2: symbols RV-3129-C3_32.768KHZ_OPTION_A_TB_QA to TPS259470ARPWR]

## RV-3129-C3_32.768KHZ_OPTION_A_TB_QA
designator U?, comment RV-3129-C3-32.768KHZ-OPTION-A-TB-QA
Real-Time Clock Module, Temperature compensated, in 2.5 x 3.7 mm package; MF: Micro Crystal; MP: RV-3129-C3 32.768KHZ OPTION A TB QA; SnapEDA_Link: https://www.snapeda.com/parts/RV-3129-C3%2032.768KHZ%20OPTION%20A%20TB%20QA/Micro+Crystal/view-part/?ref=snap; Package: QFN-10 Micro Crystal; Value: *; Check_prices: https://www.snapeda.com/parts/RV-3129-C3%2032.768KHZ%20OPTION%20A%20TB%20QA/Micro+Crystal/view-part/?ref=eda
footprint IC_RV-3129-C3_32.768KHZ_OPTION_A_TB_QA
pins: 1 CLKOE (in), 2 VDD (power), 3 CLKOUT (out), 4 SCL (in), 5 SDA (io), 6 VSS (power), 7 ~{INT} (out), 8 NC, 9 VBACKUP (power), 10 NC

## SAMV71Q21B
designator U?
SAM 32-bit ARM Cortex-M* RISC MCU, SAMV71B Series, QFP144; PartGroup: Integrated Circuits,MCU, MPU, DSP,ARM MCU; Manufacturer: MICROCHIP; MPN: ATSAMV71Q21B-AAB; AN: A06-1541; TemperatureRange: -40Â°C to +105Â°C; Height: 1,60000002384186; Value: SAMV71Q21B
footprint AP6-00118
pins: 1 PD00 (io), 2 PD31 (io), 3 VDDOUT (power), 4 PE00 (io), 5 VDDIN (power), 6 PE01 (io), 7 PE02 (io), 8 ADVREFN (power), 9 ADVREFP (power), 10 PE03 (io), 11 PC00 (io), 12 PC27 (io), 13 PC26 (io), 14 PC31 (io), 15 PC30 (io), 16 PC29 (io), 17 PC12 (io), 18 PC15 (io), 19 PC13 (io), 20 PB01 (io), 21 PB00 (io), 22 PA20 (io), 23 PA19 (io), 24 PA18 (io), 25 PA17 (io), 26 PB02 (io), 27 PE04 (io), 28 PE05 (io), 29 VDDCORE (power), 30 VDDIO (power), 31 PB03 (io), 32 PA21 (io), 33 VDDCORE (power), 34 PD30 (io), 35 PA07 (io), 36 PA08 (io), 37 PA22 (io), 38 PC01 (io), 39 PC02 (io), 40 PC03 (io), 41 PC04 (io), 42 PA13 (io), 43 VDDIO (power), 44 GND (power), 45 PA16 (io), 46 PA23 (io), 47 PD27 (io), 48 PC07 (io), 49 PA15 (io), 50 VDDCORE (power), 51 PA14 (io), 52 PD25 (io), 53 PD26 (io), 54 PC06 (io), 55 PD24 (io), 56 PA24 (io), 57 PD23 (io), 58 PC05 (io), 59 PA25 (io), 60 PD22 (io), 61 GND (power), 62 PA26 (io), 63 PD21 (io), 64 PA11 (io), 65 PD20 (io), 66 PA10 (io), 67 PD19 (io), 68 PA12 (io), 69 PD18 (io), 70 PA27 (io), 71 PD28 (io), 72 VDDIO (power), 73 PA05 (io), 74 PD17 (io), 75 PA09 (io), 76 PC28 (io), 77 PA04 (io), 78 PD16 (io), 79 PB06 (io), 80 VDDIO (power), 81 VDDCORE (power), 82 PC08 (io), 83 NRST (in), 84 PD14 (io), 85 TST (in), 86 PC09 (io), 87 PB12 (io), 88 PD13 (io), 89 PB07 (io), 90 PC10 (io), 91 PA03 (io), 92 PD12 (io), 93 PA02 (io), 94 PC11 (io), 95 GND (power), 96 VDDIO (power), 97 PC14 (io), 98 PD11 (io), 99 PA01 (io), 100 PC16 (io), 101 PD10 (io), 102 PA00 (io), 103 PC17 (io), 104 JTAGSEL (in), 105 PB04 (io), 106 PD15 (io), 107 VDDCORE (power), 108 PD29 (io), 109 PB05 (io), 110 PD09 (io), 111 PC18 (io), 112 PA28 (io), 113 PD08 (io), 114 PA06 (io), 115 GND (power), 116 PA30 (io), 117 PC19 (io), 118 PA31 (io), 119 PD07 (io), 120 PC20 (io), 121 PD06 (io), 122 PC21 (io), 123 VDDPLL (power), 124 PC22 (io), 125 PD05 (io), 126 PD04 (io), 127 PC23 (io), 128 PD03 (io), 129 PA29 (io), 130 PC24 (io), 131 PD02 (io), 132 PD01 (io), 133 PC25 (io), 134 VDDUTMII (power), 135 GND (power), 136 HSDM (io), 137 HSDP (io), 138 GND (power), 139 VDDUTMIC (power), 140 VBG (power), 141 PB08 (io), 142 PB09 (io), 143 VDDPLLUSB (power), 144 PB13 (io)
1 alternate drawing of the same symbol

## SHF-108-01-L-D-SM-LC
designator J?
MF: Samtec; Price: None; Value: *; Package: None; Availability: Unavailable; MP: SHF-108-01-L-D-SM-LC
footprint SAMTEC_SHF-108-01-L-D-SM-LC
pins: 01, 02, 03, 04, 05, 06, 07, 08, 09, 10, 11, 12, 13, 14, 15, 16

## SN65HVD230DR
designator U?
3.3 V CAN Transceiver with Standby Mode; MF: Texas Instruments; SnapEDA_Link: https://www.snapeda.com/parts/SN65HVD230DR/Texas+Instruments/view-part/?ref=snap; Package: SOIC-8 Texas Instruments; Value: *; MP: SN65HVD230DR; Check_prices: https://www.snapeda.com/parts/SN65HVD230DR/Texas+Instruments/view-part/?ref=eda
footprint SOIC127P600X175-8N
pins: 1 D (in), 2 GND (power), 3 VCC (power), 4 R (out), 5 VREF (out), 6 CANL (out), 7 CANH (out), 8 RS (in)

## SN74LV4052APWR
designator U?
5-V, 4:1, 2-channel analog multiplexer; MF: Texas Instruments; MP: SN74LV4052APWR; SnapEDA_Link: https://www.snapeda.com/parts/SN74LV4052APWR/Texas+Instruments/view-part/?ref=snap; Package: TSSOP-16 Texas Instruments; Value: *; Check_prices: https://www.snapeda.com/parts/SN74LV4052APWR/Texas+Instruments/view-part/?ref=eda
footprint SOP65P640X120-16N
pins: 1 2Y0 (out), 2 2Y2 (out), 3 2-COM (io), 4 2Y3 (out), 5 2Y1 (out), 6 INH (in), 7 GND (power), 8 GND (power), 9 B (in), 10 A (in), 11 1Y3 (out), 12 1Y0 (out), 13 1-COM (io), 14 1Y1 (out), 15 1Y2 (out), 16 VCC (power)

## SRP7050TA-220M
designator L?
FIXED IND 22UH 2.5A 170 MOHM SMD
footprint PSM6050
pins: 1, 2

## T2M-115-01-X-D-SM-WT-X-X
designator J?, comment T2M-115-01-S-D-SM-WT
MP: T2M-115-01-X-D-SM-WT-X-X; Value: *; Package: None; Price: None; Availability: Unavailable
footprint SAMTEC_T2M-115-01-X-D-SM-WT-X-X
pins: 01, 02, 03, 04, 05, 06, 07, 08, 09, 10, 11, 12, 13, 14, 15, 16, 17, 18, 19, 20, 21, 22, 23, 24, 25, 26, 27, 28, 29, 30

## Test Point
designator TP?  (no BOM)
Test Point; Solder: NF
footprint Testpoint_50
footprint Testpoint_60
footprint Testpoint_70
footprint Testpoint_80
footprint Testpoint_TH_D130H80
footprint TP_1mm_SMD
pins: 1

## TLP291-4GB-TP,E
designator U?, comment TLP291-4(GB-TP,E)
Description; Manufacturer_Name: Toshiba Electronic Devices & Storage Corp.; Source_Package: TLP291_4; Number_devices_in_Package: 1; Copyright: Copyright (C) 2026 Ultra Librarian. All rights reserved.; Manufacturer_Part_Number: TLP291-4(GB-TP,E); RefDes: Refdes; Type: Type
footprint SO16_TOS
pins: 1, 2, 3, 4, 5, 6, 7, 8, 9, 10, 11, 12, 13, 14, 15, 16

## TMC2209-LA-T
designator U?
Bipolar Motor Driver Power MOSFET Step/Direction, UART 28-QFN (5x5); MF: Trinamic Motion Control GmbH; MP: TMC2209-LA-T; SnapEDA_Link: https://www.snapeda.com/parts/TMC2209-LA-T/Trinamic/view-part/?ref=snap; Package: VFQFN-28 Trinamic; Value: *; Check_prices: https://www.snapeda.com/parts/TMC2209-LA-T/Trinamic/view-part/?ref=eda
footprint QFN50P500X500X90-29N
pins: 1 OB2 (out), 2 ~{EN} (in), 3 GND (power), 4 CPO (out), 5 CPI (in), 6 VCP (power), 7 SPREAD (in), 8 5VOUT (out), 9 MS1_AD0 (in), 10 MS2_AD1 (in), 11 DIAG (out), 12 INDEX (out), 13 CLK (in), 14 ~{PD}_UART (io), 15 VCC_IO (power), 16 STEP (in), 17 VREF (in), 18 GND (power), 19 DIR (in), 20 STDBY (in), 21 OA2 (out), 22 VS (power), 23 BRA (io), 24 OA1 (out), 25 NC, 26 OB1 (out), 27 BRB (io), 28 VS (power), 29 EXP (power)

## TPL5010QDDCTQ1
designator U?
Package: None; Price: None; Value: *; MP: TPL5010QDDCTQ1; Availability: Unavailable
footprint SOT95P280X145-6N
pins: 1 VDD (power), 2 GND (power), 3 DELAY/M_RST (in), 4 DONE (in), 5 WAKE (out), 6 RSTN (out)

## TPS5430DDAR
designator U?
IC REG BUCK ADJ 3A 8SOPWR
footprint TPS54531DDAR (IC REG BUCK ADJ 5A 8SOPWR)
pins: 1 BOOT (out), 2 NC_2, 3 NC_3, 4 VSENSE (in), 5 ENA (in), 6 GND (power), 7 VIN (power), 8 PH (io), 9 POWERPAD (power)

## TPS259470ARPWR
designator U?
footprint VQFN-HR-10
footprint VQFN-HR-10-EXP-V101
footprint VQFN-HR-10-EXP-V110
footprint VQFN-HR-10
pins: 1 EN/UVLO, 2 OVLO/OVCSEL, 3 PG/AUXOFF, 4 PGTH/~{FLT}, 5 IN, 6 OUT, 7, 8, 9, 10